# Altium schematic symbol library 28Pins_Project_V1I1.SchLib: 3 symbols
Pins are listed as number, name and electrical type; pins without a type are passive.

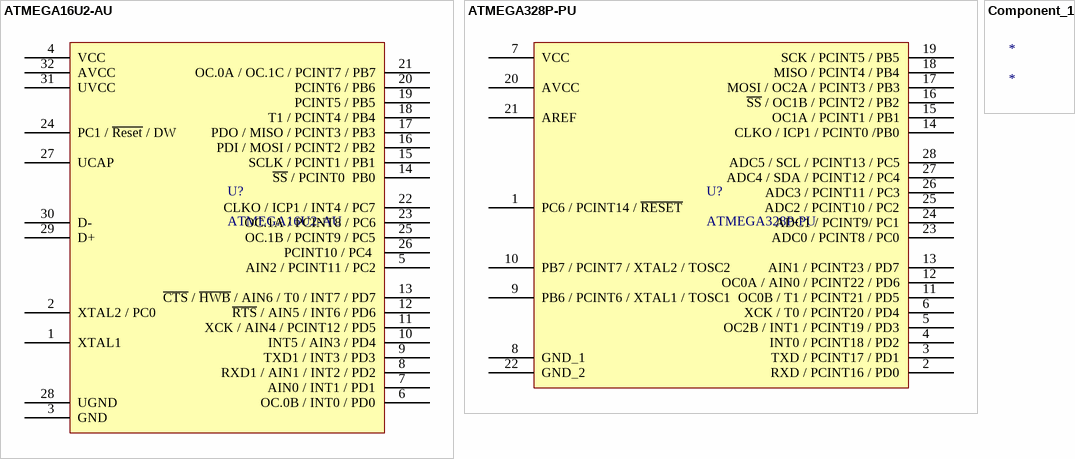
[diagram p0: symbols ATMEGA16U2-AU to Component_1]

## ATMEGA16U2-AU
designator U?
ATMEL         ATMEGA16U2-AU            MCU, 8BIT, MEGAAVR, 16MHZ, TQFP-32; Manufacturer: Microchip / Atmel; MCU Applications: USB Microcontroller; Program Memory Size: 16KB; RAM Memory Size: 512Byte; No. of I/O's: 22I/O's; MCU Case Style: TQFP; No. of Pins: 32Pins; Embedded Interface Type: QSPI, UART, USB; Supply Voltage Min: 2.7V; Supply Voltage Max: 5.5V; SVHC: No SVHC (15-Jun-2015); Supplier 1: Digi-Key; Manufacturer Part Number: ATMEGA16U2-AU; Stock 1: 1480; Pricing 1: 1=2.52, 25=2.3176, 100=2.1012 (USD); Architecture: megaAVR; MCU Core Size: 8bit; CPU Speed: 16MHz; Packaging: Each; MSL: MSL 3 - 168 hours; ComponentLink1URL: https://datasheet.ciiva.com/13036/doc7799-28769-13036800.pdf; ComponentLink1Description: https://datasheet.ciiva.com/13036/doc7799-28769-13036800.pdf; ComponentLink2URL: https://datasheet.ciiva.com/22651/doc7799-22651110.pdf; ComponentLink2Description: https://datasheet.ciiva.com/22651/doc7799-22651110.pdf; Supplier Part Number 1: ATMEGA16U2-AU-ND
footprint TQFP32
pins: 1 XTAL1, 2 XTAL2 / PC0, 3 GND, 4 VCC, 5 AIN2 / PCINT11 / PC2, 6 OC.0B / INT0 / PD0, 7 AIN0 / INT1 / PD1, 8 RXD1 / AIN1 / INT2 / PD2, 9 TXD1 / INT3 / PD3, 10 INT5 / AIN3 / PD4, 11 XCK / AIN4 / PCINT12 / PD5, 12 ~{RTS} / AIN5 / INT6 / PD6, 13 ~{CTS} / ~{HWB} / AIN6 / T0 / INT7 / PD7, 14 ~{SS} / PCINT0  PB0, 15 SCLK / PCINT1 / PB1, 16 PDI / MOSI / PCINT2 / PB2, 17 PDO / MISO / PCINT3 / PB3, 18 T1 / PCINT4 / PB4, 19 PCINT5 / PB5, 20 PCINT6 / PB6, 21 OC.0A / OC.1C / PCINT7 / PB7, 22 CLKO / ICP1 / INT4 / PC7, 23 OC.1A / PCINT8 / PC6, 24 PC1 / ~{Reset} / DW, 25 OC.1B / PCINT9 / PC5, 26 PCINT10 / PC4 , 27 UCAP, 28 UGND , 29 D+, 30 D-, 31 UVCC , 32 AVCC

## ATMEGA328P-PU
designator U?
Manufacturer: Microchip; Supplier 1: Digi-Key; Manufacturer Part Number: ATMEGA328P-PU; Stock 1: 6787; Pricing 1: 1=2.14, 25=1.9672, 100=1.7819 (USD); ComponentLink1URL: http://www.farnell.com/datasheets/2295887.pdf; ComponentLink1Description: http://www.farnell.com/datasheets/2295887.pdf; ComponentLink2URL: http://www.microchip.com/mymicrochip/filehandler.aspx?ddocname=en589968; ComponentLink2Description: http://www.microchip.com/mymicrochip/filehandler.aspx?ddocname=en589968; Supplier Part Number 1: ATMEGA328P-PU-ND
footprint 28_DIP_7.62mm
pins: 1 PC6 / PCINT14 / ~{RESET}, 2 RXD / PCINT16 / PD0, 3 TXD / PCINT17 / PD1, 4 INT0 / PCINT18 / PD2, 5 OC2B / INT1 / PCINT19 / PD3, 6 XCK / T0 / PCINT20 / PD4, 7 VCC, 8 GND_1, 9 PB6 / PCINT6 / XTAL1 / TOSC1, 10 PB7 / PCINT7 / XTAL2 / TOSC2, 11 OC0B / T1 / PCINT21 / PD5, 12  OC0A / AIN0 / PCINT22 / PD6, 13 AIN1 / PCINT23 / PD7, 14  CLKO / ICP1 / PCINT0 /PB0, 15 OC1A / PCINT1 / PB1, 16  ~{SS} / OC1B / PCINT2 / PB2, 17 MOSI / OC2A / PCINT3 / PB3, 18 MISO / PCINT4 / PB4, 19 SCK / PCINT5 / PB5, 20 AVCC, 21 AREF, 22 GND_2, 23 ADC0 / PCINT8 / PC0, 24 ADC1 / PCINT9/ PC1, 25 ADC2 / PCINT10 / PC2, 26 ADC3 / PCINT11 / PC3, 27 ADC4 / SDA / PCINT12 / PC4, 28 ADC5 / SCL / PCINT13 / PC5

## Component_1
designator *